# Altium schematic symbol library NCP176BMX330TCG.SchLib: 1 symbol
Pins are listed as number, name and electrical type; pins without a type are passive.

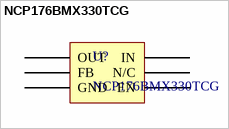
[diagram p0: symbol NCP176BMX330TCG]

## NCP176BMX330TCG
designator U?
footprint NCP176BMX330TCG
pins: 1 OUT, 2 FB, 3 GND, 4 EN, 5 N/C, 6 IN